# Altium footprint library HUBER+SUHNER_85201239.PcbLib: 1 footprints
Each footprint in its own frame and in the unit in brackets; x right, y up, seen from the top. Pads: shape width x height; smd on the part's side, far side on the other; paste and mask are expansions set on the pad; w line width, h text height; cw(c..) or ccw(c..) is an arc to the next point about the centre after c.
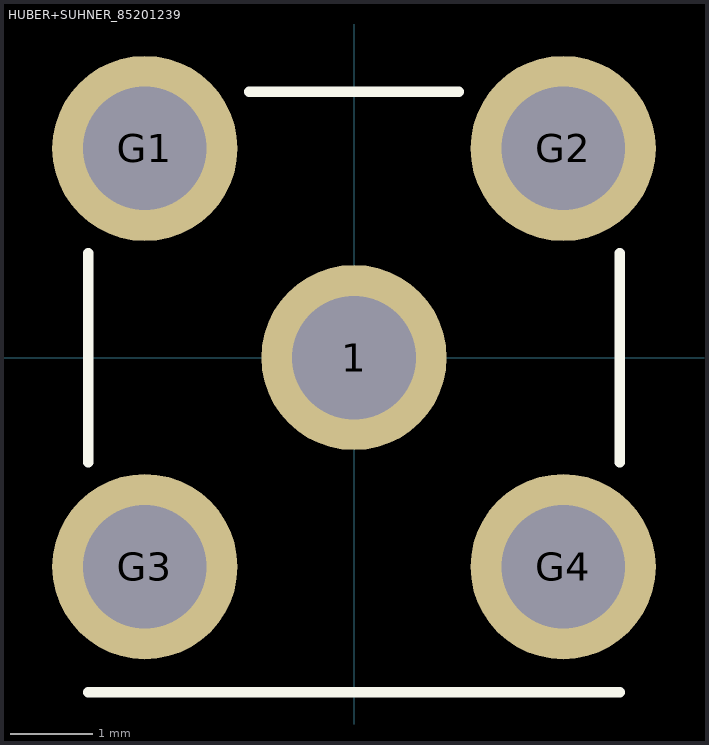
[diagram p0: the footprint, top view; thin cyan lines are the x and y axes]

## HUBER+SUHNER_85201239 [mm]
height 9.75
pads (5):
  round 2.25 hole 1.5: 1(0,0) G1(-2.54,2.54) G2(2.54,2.54) G3(-2.54,-2.54) G4(2.54,-2.54)
Top Overlay:
  lines w0.127: -3.23,-4.064 3.23,-4.064 ; -3.23,-1.27 -3.23,1.27 ; -1.27,3.23 1.27,3.23 ; 3.23,-1.27 3.23,1.27
3D body "step_temp.STEP": height 9.75, standoff -4.2, extent -3.23,-11.73 3.23,3.23